# Altium schematic symbol library PAS3225.Schlib: 1 symbol
Pins are listed as number, name and electrical type; pins without a type are passive.

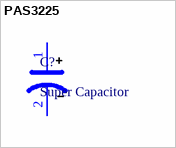
[diagram p0: symbol PAS3225]

## PAS3225
designator C?, comment Super Capacitor
pins: 1, 2